# Altium integrated library Placa_Módulo.IntLib: 12 symbols
Pins are listed as number, name and electrical type; pins without a type are passive.

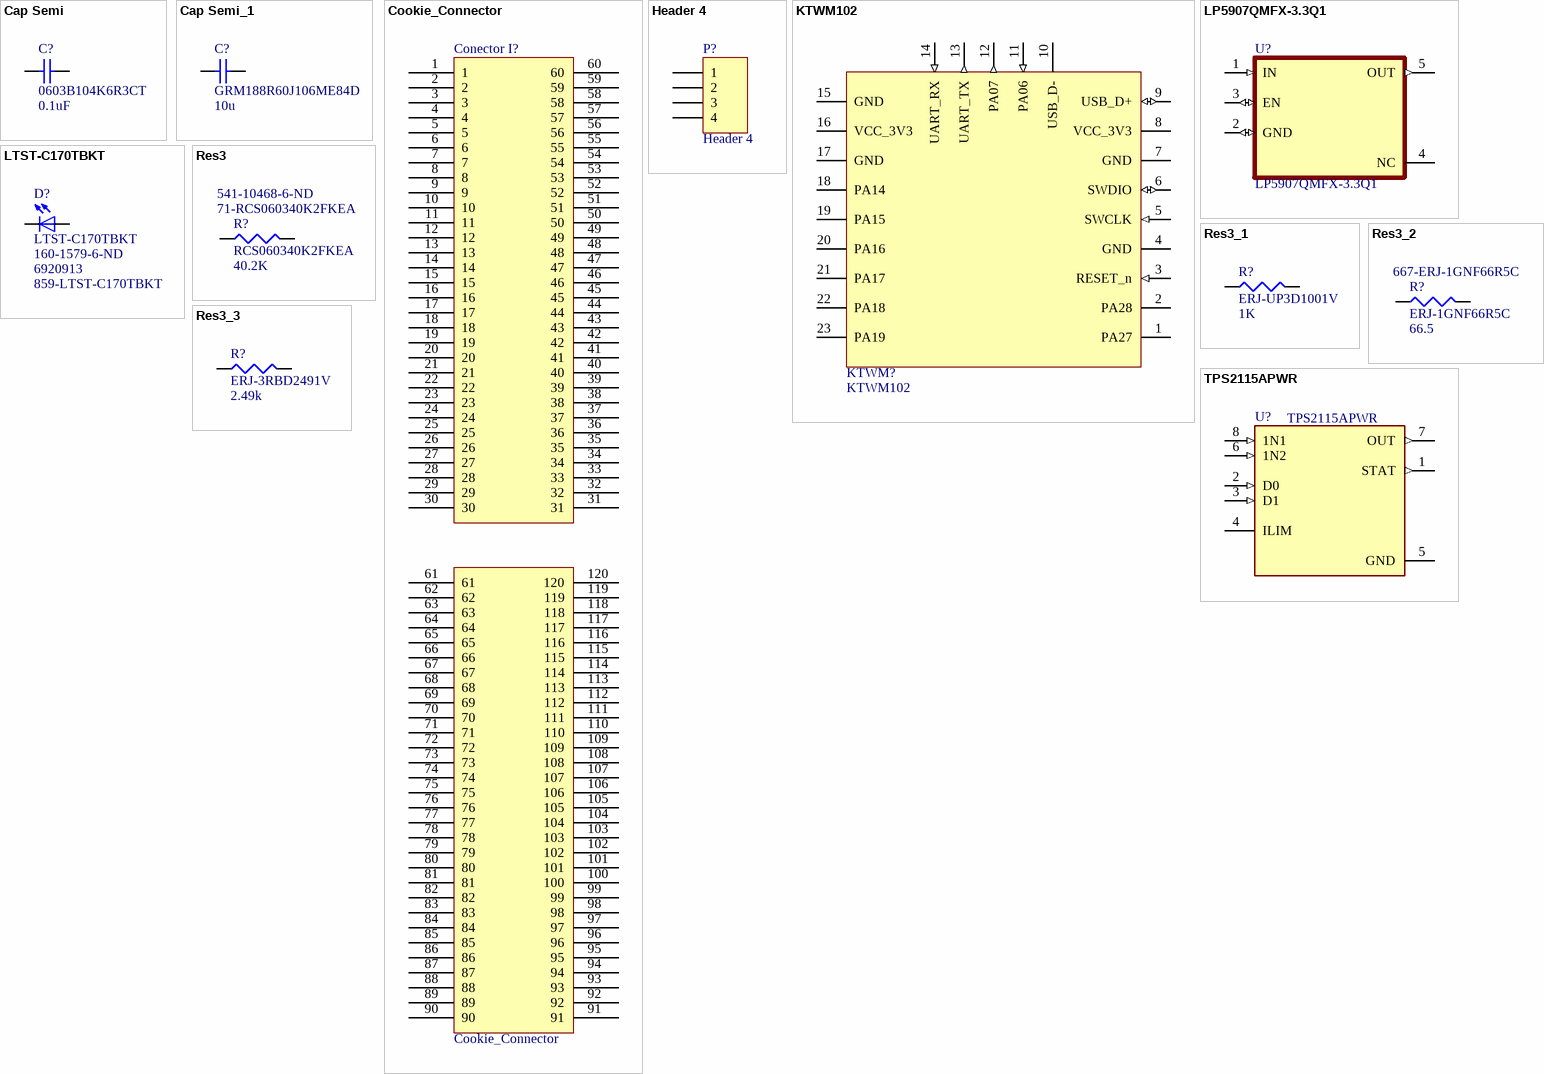
[diagram p0: symbols Cap Semi to TPS2115APWR]

## Cap Semi
designator C?, comment 0603B104K6R3CT  value 0.1uF
Capacitor (Semiconductor SIM Model); Published: 8-Jun-2000; LatestRevisionDate: 29-May-2009; LatestRevisionNote: IPC-7351 Footprint Added.; PackageReference: C1206; Publisher: Altium Limited; PackageDescription: Chip Capacitor; Supplier 1: Mouser; Supplier Part Number 1: 791-0603B104K6R3CT
footprint C1206 (Chip Capacitor, Body 3.2x1.6mm, IPC High Density)
footprint 0402 (Chip Capacitor, Body 1.0x0.5mm, IPC High Density)
footprint C2512 (Chip Capacitor, Body 2.54x1.27mm, IPC High Density)
footprint 1608[0603] (Chip Capacitor, Body 1.6x0.8mm, IPC High Density)
footprint C1210 (Chip Capacitor, Body 3.2x2.5mm, IPC High Density)
simulation model CAP (Semiconductor Capacitor)
signal-integrity model Cap Semi
pins: 1, 2

## Cap Semi_1
designator C?, comment GRM188R60J106ME84D  value 10u
Capacitor (Semiconductor SIM Model); Published: 8-Jun-2000; LatestRevisionDate: 29-May-2009; LatestRevisionNote: IPC-7351 Footprint Added.; PackageReference: C1206; Publisher: Altium Limited; PackageDescription: Chip Capacitor; Supplier 1: Mouser; Supplier Part Number 1: 81-GRM188R60J106ME4D; Supplier 2: Digi-Key; Supplier Part Number 2: 490-7316-6-ND
footprint C1206 (Chip Capacitor, Body 3.2x1.6mm, IPC High Density)
footprint 0402 (Chip Capacitor, Body 1.0x0.5mm, IPC High Density)
footprint C2512 (Chip Capacitor, Body 2.54x1.27mm, IPC High Density)
footprint 1608[0603] (Chip Capacitor, Body 1.6x0.8mm, IPC High Density)
footprint C1210 (Chip Capacitor, Body 3.2x2.5mm, IPC High Density)
simulation model CAP (Semiconductor Capacitor)
signal-integrity model Cap Semi
pins: 1, 2

## Cookie_Connector
designator Conector I?
footprint CONNECTOR60BIGDIAM_V3
footprint CONNECTOR60BIGDIAM_V3
footprint COOKIECON_HEADER_AND_SOCKET
pins: 1, 2, 3, 4, 5, 6, 7, 8, 9, 10, 11, 12, 13, 14, 15, 16, 17, 18, 19, 20, 21, 22, 23, 24, 25, 26, 27, 28, 29, 30, 31, 32, 33, 34, 35, 36, 37, 38, 39, 40, 41, 42, 43, 44, 45, 46, 47, 48, 49, 50, 51, 52, 53, 54, 55, 56, 57, 58, 59, 60, 61, 62, 63, 64, 65, 66, 67, 68, 69, 70, 71, 72, 73, 74, 75, 76, 77, 78, 79, 80, 81, 82, 83, 84, 85, 86, 87, 88, 89, 90, 91, 92, 93, 94, 95, 96, 97, 98, 99, 100, 101, 102, 103, 104, 105, 106, 107, 108, 109, 110, 111, 112, 113, 114, 115, 116, 117, 118, 119, 120

## Header 4
designator P?
Header, 4-Pin; LatestRevisionDate: 17-Jul-2002; LatestRevisionNote: Re-released for DXP Platform.; Publisher: Altium Limited
footprint HDR1X4 (Connector; Header; 4 Position)
signal-integrity model Connector
pins: 1, 2, 3, 4

## KTWM102
designator KTWM?
https://www.kirale.com/products/ktwm102/
footprint KTWM102
pins: 1 PA27, 2 PA28, 3 RESET_n (in), 4 GND, 5 SWCLK (in), 6 SWDIO (io), 7 GND, 8 VCC_3V3, 9 USB_D+ (io), 10 USB_D-, 11 PA06 (in), 12 PA07 (out), 13 UART_TX (out), 14 UART_RX (in), 15 GND, 16 VCC_3V3, 17 GND, 18 PA14, 19 PA15, 20 PA16, 21 PA17, 22 PA18, 23 PA19

## LP5907QMFX-3.3Q1
designator U?
Automotive 250-mA, low-noise, high-PSRR, low-IQ, ultra-low-dropout voltage regulator with low-IQ 5-SOT-23 -40 to 125; MF: Texas Instruments; Purchase-URL: https://pricing.snapeda.com/search/part/LP5907QMFX-3.3Q1/?ref=eda; Availability: Good; SnapEDA_Link: https://www.snapeda.com/parts/LP5907QMFX-3.3Q1/Texas%20Instruments/view-part/559786/?ref=snap; Price: None; Package: SOT-23-5 Texas Instruments; Check_prices: https://www.snapeda.com/parts/LP5907QMFX-3.3Q1/Texas%20Instruments/view-part/559786/?ref=eda; Value: *; MP: LP5907QMFX-3.3Q1; Supplier 1: Mouser; Supplier Part Number 1: 595-LP5907QMFX-3.3Q1
footprint SOT95P280X145-5N
pins: 1 IN (in), 2 GND (io), 3 EN (io), 4 NC (power), 5 OUT (out)

## LTST-C170TBKT
designator D?  Supplier Part Number 1: 160-1579-6-ND  Supplier Part Number 2: 6920913  Supplier Part Number 3: 859-LTST-C170TBKT
Blue 470nm LED Indication - Discrete 3.3V 0805 _2012 Metric_; MF: Lite-On Inc.; SnapEDA_Link: https://www.snapeda.com/parts/LTST-C170TBKT/Lite-On%20Inc./view-part/217848/?ref=snap; MP: LTST-C170TBKT; Value: *; Digi-Key_Part_Number: 160-1579-1-ND; Digi-Key_Purchase_URL: https://www.digikey.jp/product-detail/en/lite-on-inc/LTST-C170TBKT/160-1579-1-ND/564889?utm_source=snapeda&utm_medium=aggregator&utm_campaign=symbol; Package: 0805 Lite-On; Supplier 1: Digi-Key; Supplier 2: RSComponents; Supplier 3: Mouser
footprint DIOC200X125X110
pins: NEG, POS

## Res3
designator R?, comment RCS060340K2FKEA  value 40.2K  Supplier Part Number 1: 71-RCS060340K2FKEA  Supplier Part Number 2: 541-10468-6-ND
Resistor; Published: 8-Jun-2000; LatestRevisionDate: 29-May-2009; LatestRevisionNote: IPC-7351 Footprint Added.; PackageReference: J1-0603; Publisher: Altium Limited; PackageDescription: Chip Resistor; Supplier 1: Mouser; Supplier 2: Digi-Key
footprint J1-0603 (Chip Resistor, Body 1.6x0.8mm, IPC High Density)
footprint 14-1210 (Chip Resistor, Body 3.2x2.5mm, IPC High Density)
footprint 12Z-2010 (Chip Resistor, Body 5.0x2.5mm, IPC High Density)
footprint RESC6332 (Chip Resistor, Body 6.3x3.2mm, IPC High Density)
simulation model RESISTOR (Resistor)
signal-integrity model Res
pins: 1, 2

## Res3_1
designator R?, comment ERJ-UP3D1001V  value 1K
Resistor; Published: 8-Jun-2000; LatestRevisionDate: 29-May-2009; LatestRevisionNote: IPC-7351 Footprint Added.; PackageReference: J1-0603; Publisher: Altium Limited; PackageDescription: Chip Resistor; Supplier 1: Mouser
footprint J1-0603 (Chip Resistor, Body 1.6x0.8mm, IPC High Density)
footprint 14-1210 (Chip Resistor, Body 3.2x2.5mm, IPC High Density)
footprint 12Z-2010 (Chip Resistor, Body 5.0x2.5mm, IPC High Density)
footprint RESC6332 (Chip Resistor, Body 6.3x3.2mm, IPC High Density)
simulation model RESISTOR (Resistor)
signal-integrity model Res
pins: 1, 2

## Res3_2
designator R?, comment ERJ-1GNF66R5C  value 66.5  Supplier Part Number 1: 667-ERJ-1GNF66R5C
Resistor; Published: 8-Jun-2000; LatestRevisionDate: 29-May-2009; LatestRevisionNote: IPC-7351 Footprint Added.; PackageReference: J1-0603; Publisher: Altium Limited; PackageDescription: Chip Resistor; Supplier 1: Mouser
footprint J1-0603 (Chip Resistor, Body 1.6x0.8mm, IPC High Density)
footprint 14-1210 (Chip Resistor, Body 3.2x2.5mm, IPC High Density)
footprint 12Z-2010 (Chip Resistor, Body 5.0x2.5mm, IPC High Density)
footprint RESC6332 (Chip Resistor, Body 6.3x3.2mm, IPC High Density)
simulation model RESISTOR (Resistor)
signal-integrity model Res
pins: 1, 2

## Res3_3
designator R?, comment ERJ-3RBD2491V  value 2.49k
Resistor; Published: 8-Jun-2000; LatestRevisionDate: 29-May-2009; LatestRevisionNote: IPC-7351 Footprint Added.; PackageReference: J1-0603; Publisher: Altium Limited; PackageDescription: Chip Resistor; Supplier 1: Mouser; Supplier Part Number 1: 667-ERJ-3RBD2491V
footprint J1-0603 (Chip Resistor, Body 1.6x0.8mm, IPC High Density)
footprint 14-1210 (Chip Resistor, Body 3.2x2.5mm, IPC High Density)
footprint 12Z-2010 (Chip Resistor, Body 5.0x2.5mm, IPC High Density)
footprint RESC6332 (Chip Resistor, Body 6.3x3.2mm, IPC High Density)
simulation model RESISTOR (Resistor)
signal-integrity model Res
pins: 1, 2

## TPS2115APWR
designator U?
2.8-5.5-V, 84-m?, 1.25-A, power mux with manual, automatic switchover and status output 8-TSSOP -40 to 85; Package: None; Availability: Unavailable; Price: None; Value: *; MP: TPS2115APWR; Supplier 1: Mouser; Supplier Part Number 1: 595-TPS2115APWR; Supplier 2: Digi-Key; Supplier Part Number 2: 296-16940-6-ND
footprint SOP65P640X120-8N
footprint SOP65P640X120-8N
pins: 1 STAT (out), 2 D0 (in), 3 D1 (in), 4 ILIM, 5 GND (power), 6 1N2 (in), 7 OUT (out), 8 1N1 (in)